# Altium footprint library 687 1xx 183 622.PcbLib: 16 footprints
Each footprint in its own frame and in the unit in brackets; x right, y up, seen from the top. Pads: shape width x height; smd on the part's side, far side on the other; paste and mask are expansions set on the pad; w line width, h text height; cw(c..) or ccw(c..) is an arc to the next point about the centre after c.
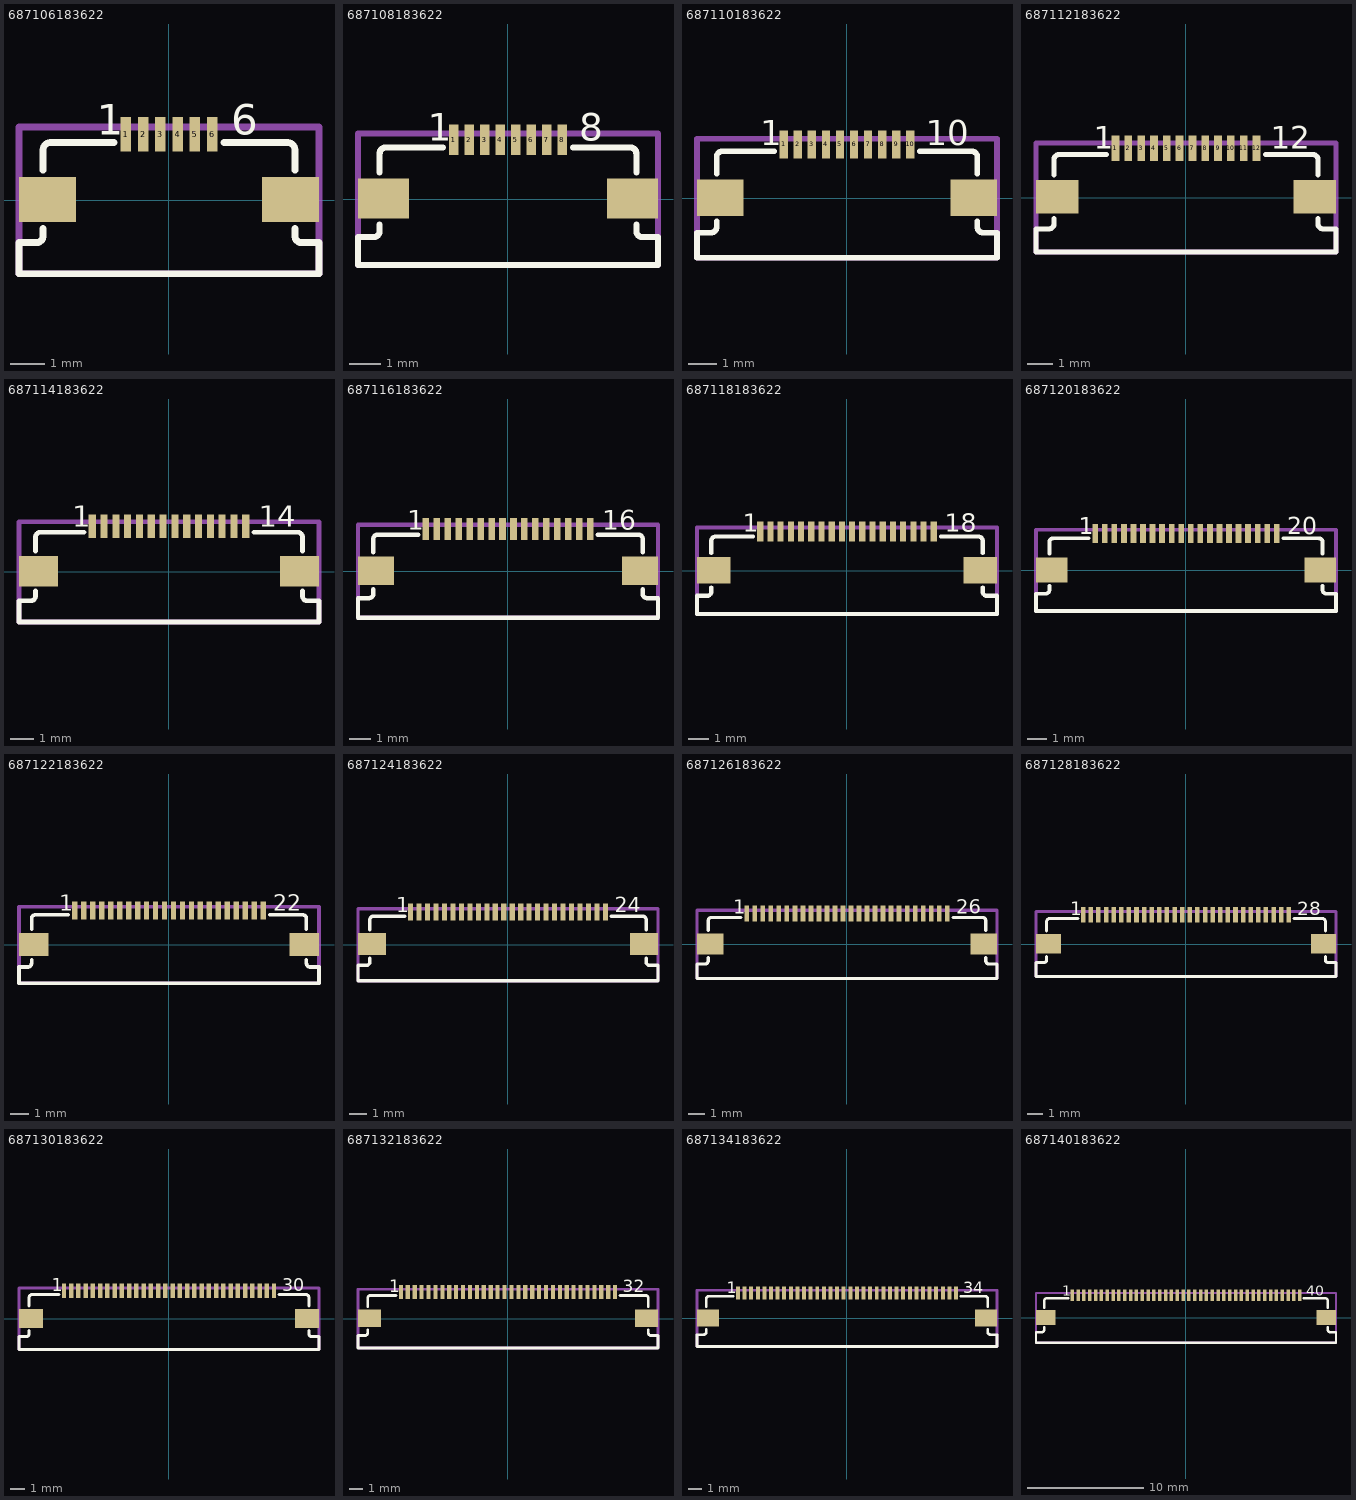
[diagram p0: the footprints below, top view; thin cyan lines are the x and y axes]

## 687106183622 [mm] "0.50 mm SMT Horizontal Top Contact - Low Profile, 6p"
height 1.2
pads (8):
  rect 0.3x1 smd: 1(-1.25,1.925) 2(-0.75,1.925) 3(-0.25,1.925) 4(0.25,1.925) 5(0.75,1.925) 6(1.25,1.925)
  rect 1.65x1.3 smd: ""(-3.525,0.025) ""(3.525,0.025)
Top Overlay:
  lines w0.2: -3.65,-0.815 -3.65,-1.025 cw(c-3.85,-1.025) -3.85,-1.225 -4.35,-1.225 -4.35,-2.125 4.35,-2.125 4.35,-1.225 3.85,-1.225 cw(c3.85,-1.025) 3.65,-1.025 3.65,-0.815 ; -3.65,0.875 -3.65,1.475 cw(c-3.45,1.475) -3.45,1.675 -1.6,1.675 ; 1.6,1.675 3.45,1.675 cw(c3.45,1.475) 3.65,1.475 3.65,0.875
  text "6" at 1.8,1.9 h0.89
  text "1" at -2.1,1.9 h0.89
Mechanical 13:
  lines w0.2: -4.35,-2.125 -4.35,2.125 4.35,2.125 4.35,-2.125 -4.35,-2.125
3D body "687106183622.stp": height 1.28, standoff -0.01, extent -4.35,-2.125 4.35,2.125

## 687108183622 [mm] "0.50 mm SMT Horizontal Top Contact - Low Profile, 8p"
height 1.2
pads (10):
  rect 0.3x1 smd: 1(-1.75,1.925) 2(-1.25,1.925) 3(-0.75,1.925) 4(-0.25,1.925) 5(0.25,1.925) 6(0.75,1.925) 7(1.25,1.925) 8(1.75,1.925)
  rect 1.65x1.3 smd: ""(-4.025,0.025) ""(4.025,0.025)
Top Overlay:
  lines w0.2: -4.15,-0.815 -4.15,-1.025 cw(c-4.35,-1.025) -4.35,-1.225 -4.85,-1.225 -4.85,-2.125 4.85,-2.125 4.85,-1.225 4.35,-1.225 cw(c4.35,-1.025) 4.15,-1.025 4.15,-0.815 ; -4.15,0.875 -4.15,1.475 cw(c-3.95,1.475) -3.95,1.675 -2.1,1.675 ; 2.1,1.675 3.95,1.675 cw(c3.95,1.475) 4.15,1.475 4.15,0.875
  text "8" at 2.3,1.9 h0.89
  text "1" at -2.6,1.9 h0.89
Mechanical 13:
  lines w0.2: -4.85,-2.125 -4.85,2.125 4.85,2.125 4.85,-2.125 -4.85,-2.125
3D body "687108183622.stp": height 1.28, standoff -0.01, extent -4.85,-2.125 4.85,2.125

## 687110183622 [mm] "0.50 mm SMT Horizontal Top Contact - Low Profile, 10p"
height 1.2
pads (12):
  rect 0.3x1 smd: 1(-2.25,1.925) 2(-1.75,1.925) 3(-1.25,1.925) 4(-0.75,1.925) 5(-0.25,1.925) 6(0.25,1.925) 7(0.75,1.925) 8(1.25,1.925) 9(1.75,1.925) 10(2.25,1.925)
  rect 1.65x1.3 smd: ""(-4.525,0.025) ""(4.525,0.025)
Top Overlay:
  lines w0.2: -4.65,-0.815 -4.65,-1.025 cw(c-4.85,-1.025) -4.85,-1.225 -5.35,-1.225 -5.35,-2.125 5.35,-2.125 5.35,-1.225 4.85,-1.225 cw(c4.85,-1.025) 4.65,-1.025 4.65,-0.815 ; -4.65,0.875 -4.65,1.475 cw(c-4.45,1.475) -4.45,1.675 -2.6,1.675 ; 2.6,1.675 4.45,1.675 cw(c4.45,1.475) 4.65,1.475 4.65,0.875
  text "1" at -3.1,1.9 h0.89
  text "10" at 2.8,1.9 h0.89
Mechanical 13:
  lines w0.2: -5.35,-2.125 5.35,-2.125 5.35,2.125 -5.35,2.125 -5.35,-2.125
3D body "687110183622.stp": height 1.28, standoff -0.01, extent -5.35,-2.125 5.35,2.125

## 687112183622 [mm] "0.50 mm SMT Horizontal Top Contact - Low Profile, 12p"
height 1.2
pads (14):
  rect 0.3x1 smd: 1(-2.75,1.925) 2(-2.25,1.925) 3(-1.75,1.925) 4(-1.25,1.925) 5(-0.75,1.925) 6(-0.25,1.925) 7(0.25,1.925) 8(0.75,1.925) 9(1.25,1.925) 10(1.75,1.925) 11(2.25,1.925) 12(2.75,1.925)
  rect 1.65x1.3 smd: ""(-5.025,0.025) ""(5.025,0.025)
Top Overlay:
  lines w0.2: -5.15,-0.815 -5.15,-1.025 cw(c-5.35,-1.025) -5.35,-1.225 -5.85,-1.225 -5.85,-2.125 5.85,-2.125 5.85,-1.225 5.35,-1.225 cw(c5.35,-1.025) 5.15,-1.025 5.15,-0.815 ; -5.15,0.875 -5.15,1.475 cw(c-4.95,1.475) -4.95,1.675 -3.1,1.675 ; 3.1,1.675 4.95,1.675 cw(c4.95,1.475) 5.15,1.475 5.15,0.875
  text "1" at -3.6,1.9 h0.89
  text "12" at 3.3,1.9 h0.89
Mechanical 13:
  lines w0.2: -5.85,-2.125 5.85,-2.125 5.85,2.125 -5.85,2.125 -5.85,-2.125
3D body "687112183622.stp": height 1.28, standoff -0.01, extent -5.85,-2.125 5.85,2.125

## 687114183622 [mm] "0.50 mm SMT Horizontal Top Contact - Low Profile, 14p"
height 1.2
pads (16):
  rect 0.3x1 smd: 1(-3.25,1.925) 2(-2.75,1.925) 3(-2.25,1.925) 4(-1.75,1.925) 5(-1.25,1.925) 6(-0.75,1.925) 7(-0.25,1.925) 8(0.25,1.925) 9(0.75,1.925) 10(1.25,1.925) 11(1.75,1.925) 12(2.25,1.925) 13(2.75,1.925) 14(3.25,1.925)
  rect 1.65x1.3 smd: ""(-5.525,0.025) ""(5.525,0.025)
Top Overlay:
  lines w0.2: -5.65,-0.815 -5.65,-1.025 cw(c-5.85,-1.025) -5.85,-1.225 -6.35,-1.225 -6.35,-2.125 6.35,-2.125 6.35,-1.225 5.85,-1.225 cw(c5.85,-1.025) 5.65,-1.025 5.65,-0.815 ; -5.65,0.875 -5.65,1.475 cw(c-5.45,1.475) -5.45,1.675 -3.6,1.675 ; 3.6,1.675 5.45,1.675 cw(c5.45,1.475) 5.65,1.475 5.65,0.875
  text "1" at -4.1,1.9 h0.89
  text "14" at 3.8,1.9 h0.89
Mechanical 13:
  lines w0.2: -6.35,-2.125 6.35,-2.125 6.35,2.125 -6.35,2.125 -6.35,-2.125
3D body "687114183622.stp": height 1.28, standoff -0.01, extent -6.35,-2.125 6.35,2.125

## 687116183622 [mm] "0.50 mm SMT Horizontal Top Contact - Low Profile, 16p"
height 1.2
pads (18):
  rect 0.3x1 smd: 1(-3.75,1.925) 2(-3.25,1.925) 3(-2.75,1.925) 4(-2.25,1.925) 5(-1.75,1.925) 6(-1.25,1.925) 7(-0.75,1.925) 8(-0.25,1.925) 9(0.25,1.925) 10(0.75,1.925) 11(1.25,1.925) 12(1.75,1.925) 13(2.25,1.925) 14(2.75,1.925) 15(3.25,1.925) 16(3.75,1.925)
  rect 1.65x1.3 smd: ""(-6.025,0.025) ""(6.025,0.025)
Top Overlay:
  lines w0.2: -6.15,-0.815 -6.15,-1.025 cw(c-6.35,-1.025) -6.35,-1.225 -6.85,-1.225 -6.85,-2.125 6.85,-2.125 6.85,-1.225 6.35,-1.225 cw(c6.35,-1.025) 6.15,-1.025 6.15,-0.815 ; -6.15,0.875 -6.15,1.475 cw(c-5.95,1.475) -5.95,1.675 -4.1,1.675 ; 4.1,1.675 5.95,1.675 cw(c5.95,1.475) 6.15,1.475 6.15,0.875
  text "16" at 4.3,1.9 h0.89
  text "1" at -4.6,1.9 h0.89
Mechanical 13:
  lines w0.2: -6.85,-2.125 -6.85,2.125 6.85,2.125 6.85,-2.125 -6.85,-2.125
3D body "687116183622.stp": height 1.28, standoff -0.01, extent -6.85,-2.125 6.85,2.125

## 687118183622 [mm] "0.50 mm SMT Horizontal Top Contact - Low Profile, 18p"
height 1.2
pads (20):
  rect 0.3x1 smd: 1(-4.25,1.925) 2(-3.75,1.925) 3(-3.25,1.925) 4(-2.75,1.925) 5(-2.25,1.925) 6(-1.75,1.925) 7(-1.25,1.925) 8(-0.75,1.925) 9(-0.25,1.925) 10(0.25,1.925) 11(0.75,1.925) 12(1.25,1.925) 13(1.75,1.925) 14(2.25,1.925) 15(2.75,1.925) 16(3.25,1.925) 17(3.75,1.925) 18(4.25,1.925)
  rect 1.65x1.3 smd: ""(-6.525,0.025) ""(6.525,0.025)
Top Overlay:
  lines w0.2: -6.65,-0.815 -6.65,-1.025 cw(c-6.85,-1.025) -6.85,-1.225 -7.35,-1.225 -7.35,-2.125 7.35,-2.125 7.35,-1.225 6.85,-1.225 cw(c6.85,-1.025) 6.65,-1.025 6.65,-0.815 ; -6.65,0.875 -6.65,1.475 cw(c-6.45,1.475) -6.45,1.675 -4.6,1.675 ; 4.6,1.675 6.45,1.675 cw(c6.45,1.475) 6.65,1.475 6.65,0.875
  text "1" at -5.1,1.9 h0.89
  text "18" at 4.8,1.9 h0.89
Mechanical 13:
  lines w0.2: -7.35,-2.125 7.35,-2.125 7.35,2.125 -7.35,2.125 -7.35,-2.125
3D body "687118183622.stp": height 1.28, standoff -0.01, extent -7.35,-2.125 7.35,2.125

## 687120183622 [mm] "0.50 mm SMT Horizontal Top Contact - Low Profile, 20p"
height 1.2
pads (22):
  rect 0.3x1 smd: 1(-4.75,1.925) 2(-4.25,1.925) 3(-3.75,1.925) 4(-3.25,1.925) 5(-2.75,1.925) 6(-2.25,1.925) 7(-1.75,1.925) 8(-1.25,1.925) 9(-0.75,1.925) 10(-0.25,1.925) 11(0.25,1.925) 12(0.75,1.925) 13(1.25,1.925) 14(1.75,1.925) 15(2.25,1.925) 16(2.75,1.925) 17(3.25,1.925) 18(3.75,1.925) 19(4.25,1.925) 20(4.75,1.925)
  rect 1.65x1.3 smd: ""(-7.025,0.025) ""(7.025,0.025)
Top Overlay:
  lines w0.2: -7.15,-0.815 -7.15,-1.025 cw(c-7.35,-1.025) -7.35,-1.225 -7.85,-1.225 -7.85,-2.125 7.85,-2.125 7.85,-1.225 7.35,-1.225 cw(c7.35,-1.025) 7.15,-1.025 7.15,-0.815 ; -7.15,0.875 -7.15,1.475 cw(c-6.95,1.475) -6.95,1.675 -5.1,1.675 ; 5.1,1.675 6.95,1.675 cw(c6.95,1.475) 7.15,1.475 7.15,0.875
  text "20" at 5.3,1.9 h0.89
  text "1" at -5.6,1.9 h0.89
Mechanical 13:
  lines w0.2: -7.85,-2.125 -7.85,2.125 7.85,2.125 7.85,-2.125 -7.85,-2.125
3D body "687120183622.stp": height 1.28, standoff -0.01, extent -7.85,-2.125 7.85,2.125

## 687122183622 [mm] "0.50 mm SMT Horizontal Top Contact - Low Profile, 22p"
height 1.2
pads (24):
  rect 0.3x1 smd: 1(-5.25,1.925) 2(-4.75,1.925) 3(-4.25,1.925) 4(-3.75,1.925) 5(-3.25,1.925) 6(-2.75,1.925) 7(-2.25,1.925) 8(-1.75,1.925) 9(-1.25,1.925) 10(-0.75,1.925) 11(-0.25,1.925) 12(0.25,1.925) 13(0.75,1.925) 14(1.25,1.925) 15(1.75,1.925) 16(2.25,1.925) 17(2.75,1.925) 18(3.25,1.925) 19(3.75,1.925) 20(4.25,1.925) 21(4.75,1.925) 22(5.25,1.925)
  rect 1.65x1.3 smd: ""(-7.525,0.025) ""(7.525,0.025)
Top Overlay:
  lines w0.2: -7.65,-0.815 -7.65,-1.025 cw(c-7.85,-1.025) -7.85,-1.225 -8.35,-1.225 -8.35,-2.125 8.35,-2.125 8.35,-1.225 7.85,-1.225 cw(c7.85,-1.025) 7.65,-1.025 7.65,-0.815 ; -7.65,0.875 -7.65,1.475 cw(c-7.45,1.475) -7.45,1.675 -5.6,1.675 ; 5.6,1.675 7.45,1.675 cw(c7.45,1.475) 7.65,1.475 7.65,0.875
  text "1" at -6.1,1.9 h0.89
  text "22" at 5.8,1.9 h0.89
Mechanical 13:
  lines w0.2: -8.35,-2.125 8.35,-2.125 8.35,2.125 -8.35,2.125 -8.35,-2.125
3D body "687122183622.stp": height 1.28, standoff -0.01, extent -8.35,-2.125 8.35,2.125

## 687124183622 [mm] "0.50 mm SMT Horizontal Top Contact - Low Profile, 24p"
height 1.2
pads (26):
  rect 0.3x1 smd: 1(-5.75,1.925) 2(-5.25,1.925) 3(-4.75,1.925) 4(-4.25,1.925) 5(-3.75,1.925) 6(-3.25,1.925) 7(-2.75,1.925) 8(-2.25,1.925) 9(-1.75,1.925) 10(-1.25,1.925) 11(-0.75,1.925) 12(-0.25,1.925) 13(0.25,1.925) 14(0.75,1.925) 15(1.25,1.925) 16(1.75,1.925) 17(2.25,1.925) 18(2.75,1.925) 19(3.25,1.925) 20(3.75,1.925) 21(4.25,1.925) 22(4.75,1.925) 23(5.25,1.925) 24(5.75,1.925)
  rect 1.65x1.3 smd: ""(-8.025,0.025) ""(8.025,0.025)
Top Overlay:
  lines w0.2: -8.15,-0.815 -8.15,-1.025 cw(c-8.35,-1.025) -8.35,-1.225 -8.85,-1.225 -8.85,-2.125 8.85,-2.125 8.85,-1.225 8.35,-1.225 cw(c8.35,-1.025) 8.15,-1.025 8.15,-0.815 ; -8.15,0.875 -8.15,1.475 cw(c-7.95,1.475) -7.95,1.675 -6.1,1.675 ; 6.1,1.675 7.95,1.675 cw(c7.95,1.475) 8.15,1.475 8.15,0.875
  text "24" at 6.3,1.9 h0.89
  text "1" at -6.6,1.9 h0.89
Mechanical 13:
  lines w0.2: -8.85,-2.125 -8.85,2.125 8.85,2.125 8.85,-2.125 -8.85,-2.125
3D body "687124183622.stp": height 1.28, standoff -0.01, extent -8.85,-2.125 8.85,2.125

## 687126183622 [mm] "0.50 mm SMT Horizontal Top Contact - Low Profile, 26p"
height 1.2
pads (28):
  rect 0.3x1 smd: 1(-6.25,1.925) 2(-5.75,1.925) 3(-5.25,1.925) 4(-4.75,1.925) 5(-4.25,1.925) 6(-3.75,1.925) 7(-3.25,1.925) 8(-2.75,1.925) 9(-2.25,1.925) 10(-1.75,1.925) 11(-1.25,1.925) 12(-0.75,1.925) 13(-0.25,1.925) 14(0.25,1.925) 15(0.75,1.925) 16(1.25,1.925) 17(1.75,1.925) 18(2.25,1.925) 19(2.75,1.925) 20(3.25,1.925) 21(3.75,1.925) 22(4.25,1.925) 23(4.75,1.925) 24(5.25,1.925) 25(5.75,1.925) 26(6.25,1.925)
  rect 1.65x1.3 smd: ""(-8.525,0.025) ""(8.525,0.025)
Top Overlay:
  lines w0.2: -8.65,-0.815 -8.65,-1.025 cw(c-8.85,-1.025) -8.85,-1.225 -9.35,-1.225 -9.35,-2.125 9.35,-2.125 9.35,-1.225 8.85,-1.225 cw(c8.85,-1.025) 8.65,-1.025 8.65,-0.815 ; -8.65,0.875 -8.65,1.475 cw(c-8.45,1.475) -8.45,1.675 -6.6,1.675 ; 6.6,1.675 8.45,1.675 cw(c8.45,1.475) 8.65,1.475 8.65,0.875
  text "26" at 6.8,1.9 h0.89
  text "1" at -7.1,1.9 h0.89
Mechanical 13:
  lines w0.2: -9.35,-2.125 -9.35,2.125 9.35,2.125 9.35,-2.125 -9.35,-2.125
3D body "687126183622.stp": height 1.28, standoff -0.01, extent -9.35,-2.125 9.35,2.125

## 687128183622 [mm] "0.50 mm SMT Horizontal Top Contact - Low Profile, 28p"
height 1.2
pads (30):
  rect 0.3x1 smd: 1(-6.75,1.925) 2(-6.25,1.925) 3(-5.75,1.925) 4(-5.25,1.925) 5(-4.75,1.925) 6(-4.25,1.925) 7(-3.75,1.925) 8(-3.25,1.925) 9(-2.75,1.925) 10(-2.25,1.925) 11(-1.75,1.925) 12(-1.25,1.925) 13(-0.75,1.925) 14(-0.25,1.925) 15(0.25,1.925) 16(0.75,1.925) 17(1.25,1.925) 18(1.75,1.925) 19(2.25,1.925) 20(2.75,1.925) 21(3.25,1.925) 22(3.75,1.925) 23(4.25,1.925) 24(4.75,1.925) 25(5.25,1.925) 26(5.75,1.925) 27(6.25,1.925) 28(6.75,1.925)
  rect 1.65x1.3 smd: ""(-9.025,0.025) ""(9.025,0.025)
Top Overlay:
  lines w0.2: -9.15,-0.815 -9.15,-1.025 cw(c-9.35,-1.025) -9.35,-1.225 -9.85,-1.225 -9.85,-2.125 9.85,-2.125 9.85,-1.225 9.35,-1.225 cw(c9.35,-1.025) 9.15,-1.025 9.15,-0.815 ; -9.15,0.875 -9.15,1.475 cw(c-8.95,1.475) -8.95,1.675 -7.1,1.675 ; 7.1,1.675 8.95,1.675 cw(c8.95,1.475) 9.15,1.475 9.15,0.875
  text "1" at -7.6,1.9 h0.89
  text "28" at 7.3,1.9 h0.89
Mechanical 13:
  lines w0.2: -9.85,-2.125 9.85,-2.125 9.85,2.125 -9.85,2.125 -9.85,-2.125
3D body "687128183622.stp": height 1.24, standoff -0.01, extent -9.85,-2.125 9.85,2.125

## 687130183622 [mm] "0.50 mm SMT Horizontal Top Contact - Low Profile, 30p"
height 1.2
pads (32):
  rect 0.3x1 smd: 1(-7.25,1.925) 2(-6.75,1.925) 3(-6.25,1.925) 4(-5.75,1.925) 5(-5.25,1.925) 6(-4.75,1.925) 7(-4.25,1.925) 8(-3.75,1.925) 9(-3.25,1.925) 10(-2.75,1.925) 11(-2.25,1.925) 12(-1.75,1.925) 13(-1.25,1.925) 14(-0.75,1.925) 15(-0.25,1.925) 16(0.25,1.925) 17(0.75,1.925) 18(1.25,1.925) 19(1.75,1.925) 20(2.25,1.925) 21(2.75,1.925) 22(3.25,1.925) 23(3.75,1.925) 24(4.25,1.925) 25(4.75,1.925) 26(5.25,1.925) 27(5.75,1.925) 28(6.25,1.925) 29(6.75,1.925) 30(7.25,1.925)
  rect 1.65x1.3 smd: ""(-9.525,0.025) ""(9.525,0.025)
Top Overlay:
  lines w0.2: -9.65,-0.815 -9.65,-1.025 cw(c-9.85,-1.025) -9.85,-1.225 -10.35,-1.225 -10.35,-2.125 10.35,-2.125 10.35,-1.225 9.85,-1.225 cw(c9.85,-1.025) 9.65,-1.025 9.65,-0.815 ; -9.65,0.875 -9.65,1.475 cw(c-9.45,1.475) -9.45,1.675 -7.6,1.675 ; 7.6,1.675 9.45,1.675 cw(c9.45,1.475) 9.65,1.475 9.65,0.875
  text "1" at -8.1,1.9 h0.89
  text "30" at 7.8,1.9 h0.89
Mechanical 13:
  lines w0.2: -10.35,-2.125 10.35,-2.125 10.35,2.125 -10.35,2.125 -10.35,-2.125
3D body "687130183622.stp": height 1.24, standoff -0.01, extent -10.35,-2.125 10.35,2.125

## 687132183622 [mm] "0.50 mm SMT Horizontal Top Contact - Low Profile, 32p"
height 1.2
pads (34):
  rect 0.3x1 smd: 1(-7.75,1.925) 2(-7.25,1.925) 3(-6.75,1.925) 4(-6.25,1.925) 5(-5.75,1.925) 6(-5.25,1.925) 7(-4.75,1.925) 8(-4.25,1.925) 9(-3.75,1.925) 10(-3.25,1.925) 11(-2.75,1.925) 12(-2.25,1.925) 13(-1.75,1.925) 14(-1.25,1.925) 15(-0.75,1.925) 16(-0.25,1.925) 17(0.25,1.925) 18(0.75,1.925) 19(1.25,1.925) 20(1.75,1.925) 21(2.25,1.925) 22(2.75,1.925) 23(3.25,1.925) 24(3.75,1.925) 25(4.25,1.925) 26(4.75,1.925) 27(5.25,1.925) 28(5.75,1.925) 29(6.25,1.925) 30(6.75,1.925) 31(7.25,1.925) 32(7.75,1.925)
  rect 1.65x1.3 smd: ""(-10.025,0.025) ""(10.025,0.025)
Top Overlay:
  lines w0.2: -10.15,-0.815 -10.15,-1.025 cw(c-10.35,-1.025) -10.35,-1.225 -10.85,-1.225 -10.85,-2.125 10.85,-2.125 10.85,-1.225 10.35,-1.225 cw(c10.35,-1.025) 10.15,-1.025 10.15,-0.815 ; -10.15,0.875 -10.15,1.475 cw(c-9.95,1.475) -9.95,1.675 -8.1,1.675 ; 8.1,1.675 9.95,1.675 cw(c9.95,1.475) 10.15,1.475 10.15,0.875
  text "32" at 8.3,1.9 h0.89
  text "1" at -8.6,1.9 h0.89
Mechanical 13:
  lines w0.2: -10.85,-2.125 -10.85,2.125 10.85,2.125 10.85,-2.125 -10.85,-2.125
3D body "687132183622.stp": height 1.24, standoff -0.01, extent -10.85,-2.125 10.85,2.125

## 687134183622 [mm] "0.50 mm SMT Horizontal Top Contact - Low Profile, 34p"
height 1.2
pads (36):
  rect 0.3x1 smd: 1(-8.25,1.925) 2(-7.75,1.925) 3(-7.25,1.925) 4(-6.75,1.925) 5(-6.25,1.925) 6(-5.75,1.925) 7(-5.25,1.925) 8(-4.75,1.925) 9(-4.25,1.925) 10(-3.75,1.925) 11(-3.25,1.925) 12(-2.75,1.925) 13(-2.25,1.925) 14(-1.75,1.925) 15(-1.25,1.925) 16(-0.75,1.925) 17(-0.25,1.925) 18(0.25,1.925) 19(0.75,1.925) 20(1.25,1.925) 21(1.75,1.925) 22(2.25,1.925) 23(2.75,1.925) 24(3.25,1.925) 25(3.75,1.925) 26(4.25,1.925) 27(4.75,1.925) 28(5.25,1.925) 29(5.75,1.925) 30(6.25,1.925) 31(6.75,1.925) 32(7.25,1.925) 33(7.75,1.925) 34(8.25,1.925)
  rect 1.65x1.3 smd: ""(-10.525,0.025) ""(10.525,0.025)
Top Overlay:
  lines w0.2: -10.65,-0.815 -10.65,-1.025 cw(c-10.85,-1.025) -10.85,-1.225 -11.35,-1.225 -11.35,-2.125 11.35,-2.125 11.35,-1.225 10.85,-1.225 cw(c10.85,-1.025) 10.65,-1.025 10.65,-0.815 ; -10.65,0.875 -10.65,1.475 cw(c-10.45,1.475) -10.45,1.675 -8.6,1.675 ; 8.6,1.675 10.45,1.675 cw(c10.45,1.475) 10.65,1.475 10.65,0.875
  text "34" at 8.8,1.9 h0.89
  text "1" at -9.1,1.9 h0.89
Mechanical 13:
  lines w0.2: -11.35,-2.125 -11.35,2.125 11.35,2.125 11.35,-2.125 -11.35,-2.125
3D body "687134183622.stp": height 1.24, standoff -0.01, extent -11.35,-2.125 11.35,2.125

## 687140183622 [mm] "0.50 mm SMT Horizontal Top Contact - Low Profile, 40p"
height 1.2
pads (42):
  rect 0.3x1 smd: 1(-9.75,1.925) 2(-9.25,1.925) 3(-8.75,1.925) 4(-8.25,1.925) 5(-7.75,1.925) 6(-7.25,1.925) 7(-6.75,1.925) 8(-6.25,1.925) 9(-5.75,1.925) 10(-5.25,1.925) 11(-4.75,1.925) 12(-4.25,1.925) 13(-3.75,1.925) 14(-3.25,1.925) 15(-2.75,1.925) 16(-2.25,1.925) 17(-1.75,1.925) 18(-1.25,1.925) 19(-0.75,1.925) 20(-0.25,1.925) 21(0.25,1.925) 22(0.75,1.925) 23(1.25,1.925) 24(1.75,1.925) 25(2.25,1.925) 26(2.75,1.925) 27(3.25,1.925) 28(3.75,1.925) 29(4.25,1.925) 30(4.75,1.925) 31(5.25,1.925) 32(5.75,1.925) 33(6.25,1.925) 34(6.75,1.925) 35(7.25,1.925) 36(7.75,1.925) 37(8.25,1.925) 38(8.75,1.925) 39(9.25,1.925) 40(9.75,1.925)
  rect 1.65x1.3 smd: ""(-12.025,0.025) ""(12.025,0.025)
Top Overlay:
  lines w0.2: -12.15,-0.815 -12.15,-1.025 cw(c-12.35,-1.025) -12.35,-1.225 -12.85,-1.225 -12.85,-2.125 12.85,-2.125 12.85,-1.225 12.35,-1.225 cw(c12.35,-1.025) 12.15,-1.025 12.15,-0.815 ; -12.15,0.875 -12.15,1.475 cw(c-11.95,1.475) -11.95,1.675 -10.1,1.675 ; 10.1,1.675 11.95,1.675 cw(c11.95,1.475) 12.15,1.475 12.15,0.875
  text "40" at 10.3,1.9 h0.89
  text "1" at -10.6,1.9 h0.89
Mechanical 13:
  lines w0.2: -12.85,-2.125 -12.85,2.125 12.85,2.125 12.85,-2.125 -12.85,-2.125
3D body "687140183622.stp": height 1.24, standoff -0.01, extent -12.85,-2.125 12.85,2.125